# Altium schematic symbol library SCH_ConnectorHDR.SchLib: 14 symbols
Pins are listed as number, name and electrical type; pins without a type are passive.

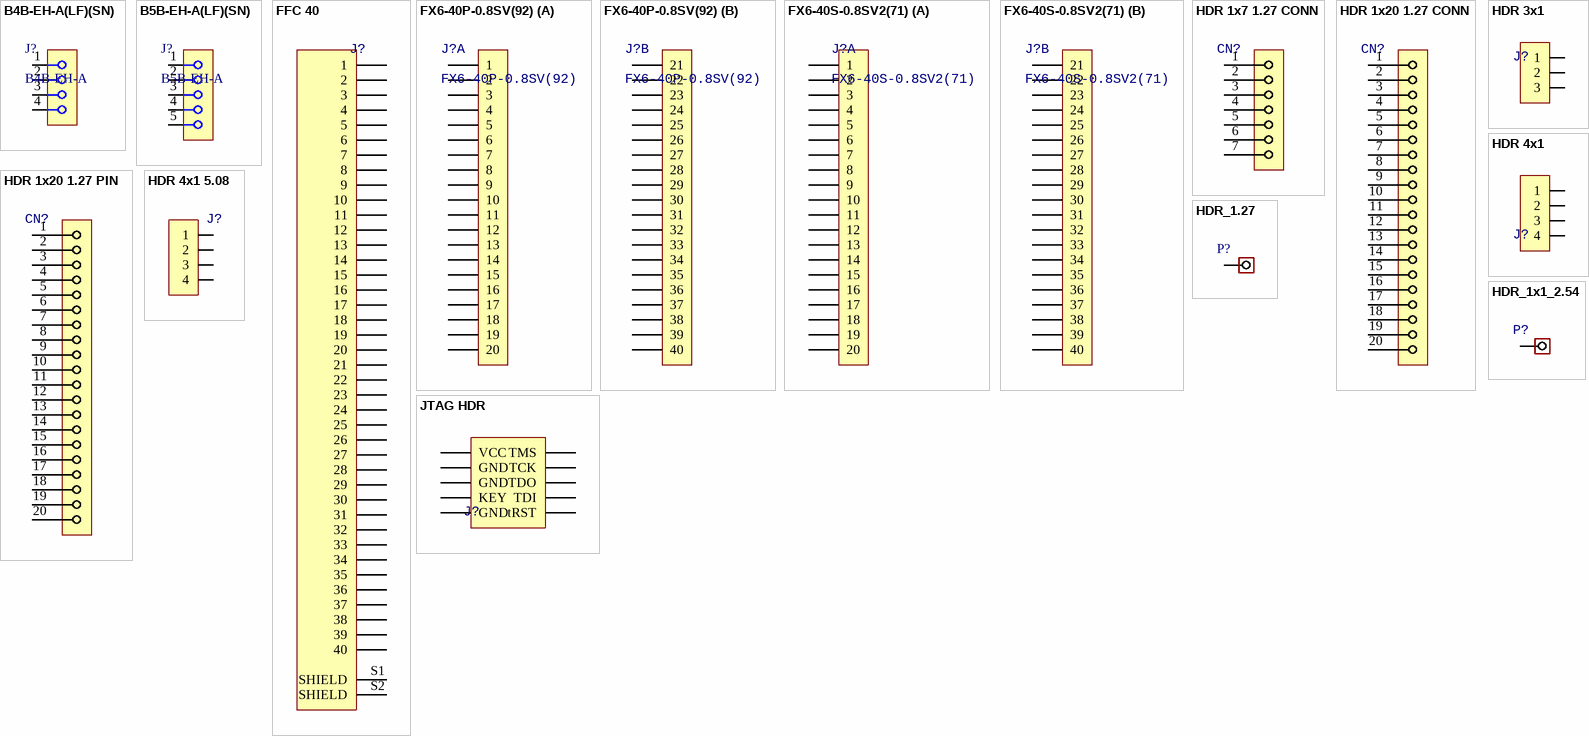
[diagram p0: symbols B4B-EH-A(LF)(SN) to JTAG HDR]

## B4B-EH-A(LF)(SN)
designator J?, comment B4B-EH-A
4 Positions Header, Shrouded Connector 0.098" (2.50mm) Through Hole Tin; Manufacturer: JST; Manufacturer Part Number: B4B-EH-A(LF)(SN); Number of Positions: 4; Connector Type: Male Pin,Plug; Gender: Male; Current Rating: 3A; Voltage Rating: 250V; Contact Resistance: 20mR; Pitch: 2.5mm; Supplier 1: Digi-Key; Stock 1: 67844; Pricing 1: 1=0.17, 10=0.164, 100=0.1133, 500=0.09588, 1000=0.07845, 5000=0.06973, 10000=0.0632 (EUR); Mount: Through Hole; Contact Plating: Copper,Tin; Colour: Natural; Contact Material: Brass,Copper Alloy; Housing Colour: White; Housing Material: Nylon; Min Operating Temperature: -25°C; Max Operating Temperature: 85°C; Number of Rows: 1; Packaging: Bulk; Fastening Type: Detent; Number of Contacts: 4; Termination: Press-Fit; Orientation: Straight; Max Current Rating: 3A; Max Voltage Rating (AC): 250V; Length: 12.5mm; Depth: 3.8mm; Contact Mating Length: 0.13inch; Lead Free: Lead Free; REACH SVHC: Unknown; ComponentLink1URL: http://www1.futureelectronics.com/doc/JST/B4B-EH-A(LF)(SN).pdf; ComponentLink1Description: http://www1.futureelectronics.com/doc/JST/B4B-EH-A(LF)(SN).pdf; ComponentLink2URL: http://uk.rs-online.com/webdocs/1363/0900766b8136354a.pdf; ComponentLink2Description: http://uk.rs-online.com/webdocs/1363/0900766b8136354a.pdf; ComponentLink3URL: http://www.jst-mfg.com/product/pdf/eng/eEH.pdf; ComponentLink3Description: http://www.jst-mfg.com/product/pdf/eng/eEH.pdf; ComponentLink4URL: https://www.verical.com/server-webapp/html/getDatasheet?partID=640922; ComponentLink4Description: https://www.verical.com/server-webapp/html/getDatasheet?partID=640922; ComponentLink5URL: http://www.produktinfo.conrad.com/datenblaetter/1200000-1299999/001217321-da-01-en-STIFTLEISTE_GERADE_4_POL__RM_25MM.pdf; ComponentLink5Description: http://www.produktinfo.conrad.com/datenblaetter/1200000-1299999/001217321-da-01-en-STIFTLEISTE_GERADE_4_POL__RM_25MM.pdf; Supplier Part Number 1: 455-1613-ND
footprint JST_EH_1x4_2.54 (JST EH Connector 4 Pins Top Entry Type)
pins: 1, 2, 3, 4

## B5B-EH-A(LF)(SN)
designator J?, comment B5B-EH-A
5 Positions Header, Shrouded Connector 0.098" (2.50mm) Through Hole Tin; Manufacturer: JST; Manufacturer Part Number: B5B-EH-A(LF)(SN); Number of Positions: 5; Connector Type: Male Pin,Plug; Gender: Male; Current Rating: 3A; Voltage Rating: 250V; Pitch: 2.5mm; Supplier 1: Digi-Key; Stock 1: 10273; Pricing 1: 1=0.21, 10=0.195, 100=0.1354, 500=0.11452, 1000=0.0937, 5000=0.08329, 10000=0.07548 (EUR); Mount: Through Hole; Colour: Natural; Housing Colour: White; Contact Plating: Tin; Contact Material: Brass,Copper Alloy; Number of Rows: 1; Packaging: Bulk; Fastening Type: Detent; Number of Contacts: 5; Termination: Press-Fit; Orientation: Straight; Contact Mating Length: 0.13inch; Lead Free: Lead Free; REACH SVHC: Unknown; ComponentLink1URL: http://uk.rs-online.com/webdocs/05aa/0900766b805aaa32.pdf; ComponentLink1Description: http://uk.rs-online.com/webdocs/05aa/0900766b805aaa32.pdf; ComponentLink2URL: http://www.jst-mfg.com/product/pdf/eng/eEH.pdf; ComponentLink2Description: http://www.jst-mfg.com/product/pdf/eng/eEH.pdf; ComponentLink3URL: http://www.farnell.com/datasheets/621886.pdf; ComponentLink3Description: http://www.farnell.com/datasheets/621886.pdf; ComponentLink4URL: http://www.produktinfo.conrad.com/datenblaetter/1200000-1299999/001217322-da-01-en-STIFTLEISTE_GERADE_5_POL__RM_25MM.pdf; ComponentLink4Description: http://www.produktinfo.conrad.com/datenblaetter/1200000-1299999/001217322-da-01-en-STIFTLEISTE_GERADE_5_POL__RM_25MM.pdf; Supplier Part Number 1: 455-1614-ND
footprint JST_EH_1x5_2.54 (JST EH Connector 5 Pins Top Entry Type)
pins: 1, 2, 3, 4, 5

## FFC 40
designator J?, comment 4-1734592-0  (value not drawn)
TE CONNECTIVITY / AMP   4-1734592-0   FFC / FPC Board Connector, FPC Series, Surface Mount, Receptacle, 40 Contacts, Bottom, 0.5 mm; Contact Resistance: 35mR; Max Voltage Rating (AC): 250V; Current Rating: 500mA; Gender: Female; Number of Positions: 40; Shielding: Unshielded; Connector Type: Connector,Receptacle,Socket; Wire/Cable Type: Flat Flex; Connector System: Flex-to-Board; Plating Thickness: 0.025um; Mating Alignment: Yes (With); PCB Mount Alignment: No (Without); PCB Mount Retention: With; PCB Mounting Orientation: Right Angle; Pitch: 0.5mm; Supplier 1: Digi-Key; Supplier Part Number 1: A100226DKR-ND; Manufacturer 1: TE Connectivity; Manufacturer Part Number 1: 4-1734592-0; Description 1: TE CONNECTIVITY / AMP   4-1734592-0   FFC / FPC Board Connector, FPC Series, Surface Mount, Receptacle, 40 Contacts, Bottom, 0.5 mm; Stock 1: 31060; Pricing 1: 1=1.16, 10=1.049, 25=0.9844, 50=0.9416, 100=0.8988, 250=0.8132, 500=0.74898, 1000=0.64199 (USD); Mount: Surface Mount; Contact Plating: Gold; Contact Material: Bronze; Housing Colour: Natural; Housing Material: Polymer; Min Operating Temperature: -40°C; Max Operating Temperature: 85°C; Number of Rows: 1; Packaging: Tape and Reel; Package Quantity: 2000; Voltage Rating: 250V; Termination: SMD/SMT; Contact Location: Bottom; Number of Contacts: 40; Orientation: Right Angle; Sealable: No (Without); Shrouded: Yes (With); Contact Current Rating: 500mA; Length: 25.43mm; Height: 2.05mm; Width: 5.1mm; Depth: 5.1mm; Radiation Hardening: No; REACH SVHC: No SVHC; Lead Free: Lead Free; ELV: Compliant; Flammability Rating: UL94 V-0
footprint TE_4-1734592-0_4-1734592-0(Primary)
pins: 1, 2, 3, 4, 5, 6, 7, 8, 9, 10, 11, 12, 13, 14, 15, 16, 17, 18, 19, 20, 21, 22, 23, 24, 25, 26, 27, 28, 29, 30, 31, 32, 33, 34, 35, 36, 37, 38, 39, 40, S1 SHIELD, S2 SHIELD

## FX6-40P-0.8SV(92)
designator J?
Board to Board & Mezzanine Connectors 40P M HEADER SMT BOARD VERTICAL TYPE; Manufacturer: Hirose; Supplier 1: Digi-Key; Manufacturer Part Number: FX6-40P-0.8SV(92); Stock 1: 0; Pricing 1: 1000=1.711 (USD); Number of Pins: 40; Packaging: Tape and Reel; Package Quantity: 1000; Termination: SMD/SMT; Lead Free: Lead Free; ComponentLink1URL: https://www.hirose.com/product/en/download_file/key_name/FX6/category/Catalog/doc_file_id/49674/?file_category_id=4&item_id=211&is_series=1; ComponentLink1Description: https://www.hirose.com/product/en/download_file/key_name/FX6/category/Catalog/doc_file_id/49674/?file_category_id=4&item_id=211&is_series=1; ComponentLink2URL: http://www.hirose.co.jp/cataloge_hp/e57600013.pdf; ComponentLink2Description: http://www.hirose.co.jp/cataloge_hp/e57600013.pdf; Supplier Part Number 1: FX6-40P-0.8SV(92)-ND
footprint FX6-40P-0.8SV(92) (Male 40 pins Header)
part A pins: 1, 2, 3, 4, 5, 6, 7, 8, 9, 10, 11, 12, 13, 14, 15, 16, 17, 18, 19, 20
part B pins: 21, 22, 23, 24, 25, 26, 27, 28, 29, 30, 31, 32, 33, 34, 35, 36, 37, 38, 39, 40

## FX6-40S-0.8SV2(71)
designator J?
CONN RECEPT 40POS .8MM W/BOSS; Manufacturer: Hirose; Number of Contacts: 40; Current Rating: 500mA; Connector Type: Receptacle; Voltage Rating: 100V; Pitch: 0.8mm; Mated Stacking Heights: 9mm; Row Spacing: 2.7mm; Supplier 1: Digi-Key; Manufacturer Part Number: FX6-40S-0.8SV2(71); Stock 1: 530; Pricing 1: 1=3.75, 10=3.6, 25=3.3, 50=3.15, 100=3, 250=2.625 (USD); Mount: Surface Mount; Contact Plating: Gold; Contact Material: Bronze; Housing Material: Polyphenylene; Housing Colour: Brown; Number of Rows: 2; Package Quantity: 22; Packaging: Rail/Tube; Number of Positions: 40; Termination: SMD/SMT; Gender: Receptacle; Orientation: Straight; Radiation Hardening: No; Lead Free: Lead Free; Flammability Rating: UL94 V-0; REACH SVHC: No SVHC; ComponentLink1URL: https://datasheet.ciiva.com/11754/0900766b80f5fb2e-11754480.pdf; ComponentLink1Description: https://datasheet.ciiva.com/11754/0900766b80f5fb2e-11754480.pdf; ComponentLink2URL: https://datasheet.ciiva.com/9481/e57600013-9481061.pdf; ComponentLink2Description: https://datasheet.ciiva.com/9481/e57600013-9481061.pdf; ComponentLink3URL: https://datasheet.ciiva.com/8039/1910196-8039051.pdf; ComponentLink3Description: https://datasheet.ciiva.com/8039/1910196-8039051.pdf; ComponentLink4URL: https://datasheet.ciiva.com/16352/e57600013-16352619.pdf; ComponentLink4Description: https://datasheet.ciiva.com/16352/e57600013-16352619.pdf; ComponentLink5URL: https://datasheet.ciiva.com/394/e57600013-394460.pdf; ComponentLink5Description: https://datasheet.ciiva.com/394/e57600013-394460.pdf
footprint FX6-40S-0.8SV2(71) (Female 40 Pins Header)
part A pins: 1, 2, 3, 4, 5, 6, 7, 8, 9, 10, 11, 12, 13, 14, 15, 16, 17, 18, 19, 20
part B pins: 21, 22, 23, 24, 25, 26, 27, 28, 29, 30, 31, 32, 33, 34, 35, 36, 37, 38, 39, 40

## HDR 1x7 1.27 CONN
designator CN?  (value not drawn)
footprint HDR1x20_1.27_PIN
footprint HDR1x7_1.27_CONN
pins: 1, 2, 3, 4, 5, 6, 7

## HDR 1x20 1.27 CONN
designator CN?  (value not drawn)
footprint HDR1x20_1.27_CONN
pins: 1, 2, 3, 4, 5, 6, 7, 8, 9, 10, 11, 12, 13, 14, 15, 16, 17, 18, 19, 20

## HDR 1x20 1.27 PIN
designator CN?  (value not drawn)
footprint HDR1x20_1.27_PIN
pins: 1, 2, 3, 4, 5, 6, 7, 8, 9, 10, 11, 12, 13, 14, 15, 16, 17, 18, 19, 20

## HDR 3x1
designator J?  (value not drawn)
Manufacturer: JAE Electronics; Manufacturer Part Number: IL-G-4P-S3T2-SA; 梱包形態: バルク; 部品状況: 有効; コネクタタイプ: ヘッダ; コンタクトタイプ: 雄ピン; ピッチ - 嵌合: 0.098インチ（2.50mm）; ポジション数: 4; 列数: 1; 負荷ポジション数: 全; 形態: 基板対ケーブル/ワイヤ; シュラウディング: シュラウド型- 1ウォール; 実装タイプ: スルーホール; 終端: はんだ; 締め具タイプ: 摩擦式ロック; コンタクト長 - 嵌合: 0.157インチ（4.00mm）; コンタクト長 - ポスト: 0.138インチ（3.50mm）; 全体のコンタクト長: 0.378インチ（9.60mm）; 絶縁高さ: 0.279インチ（7.10mm）; コンタクトシェープ: 正方形; コンタクト仕上げ - 嵌合: 錫; コンタクト材料: 真鍮; 絶縁材料: ポリアミド（PA66）、ナイロン66; 動作温度: -40°C～85°C; 材質難燃性グレード: UL94 V-0; 絶縁色: 茶; 定格電流: 3A/コンタクト; 嵌合スタック高さ: 10mm; RoHS: RoHS Compliant; Category: コネクタ、相互接続; ロースペーシング - 嵌合: -; コンタクト仕上げ厚さ - 嵌合: -; コンタクト仕上げ - ポスト: 錫; 特長: -; 防塵防水: -; 定格電圧: -; コンタクト仕上げ厚さ - ポスト: -; アプリケーション: -; ComponentLink1URL: http://www.jae.com/z-en/pdf_download_exec.cfm?param=2008-71-IL-G.pdf; ComponentLink1Description: http://www.jae.com/z-en/pdf_download_exec.cfm?param=2008-71-IL-G.pdf
footprint HDR1X3_2.54_180F
pins: 1, 2, 3

## HDR 4x1
designator J?  (value not drawn)
Manufacturer: JAE Electronics; Manufacturer Part Number: IL-G-4P-S3T2-SA; 梱包形態: バルク; 部品状況: 有効; コネクタタイプ: ヘッダ; コンタクトタイプ: 雄ピン; ピッチ - 嵌合: 0.098インチ（2.50mm）; ポジション数: 4; 列数: 1; 負荷ポジション数: 全; 形態: 基板対ケーブル/ワイヤ; シュラウディング: シュラウド型- 1ウォール; 実装タイプ: スルーホール; 終端: はんだ; 締め具タイプ: 摩擦式ロック; コンタクト長 - 嵌合: 0.157インチ（4.00mm）; コンタクト長 - ポスト: 0.138インチ（3.50mm）; 全体のコンタクト長: 0.378インチ（9.60mm）; 絶縁高さ: 0.279インチ（7.10mm）; コンタクトシェープ: 正方形; コンタクト仕上げ - 嵌合: 錫; コンタクト材料: 真鍮; 絶縁材料: ポリアミド（PA66）、ナイロン66; 動作温度: -40°C～85°C; 材質難燃性グレード: UL94 V-0; 絶縁色: 茶; 定格電流: 3A/コンタクト; 嵌合スタック高さ: 10mm; Supplier 1: Digi-Key; RoHS: RoHS Compliant; Category: コネクタ、相互接続; Stock 1: 5644; Pricing 1: 1=54, 10=50.6, 100=38.76, 500=33.702, 1000=27.804, 5000=24.434, 10000=22.7489 (JPY); ロースペーシング - 嵌合: -; コンタクト仕上げ厚さ - 嵌合: -; コンタクト仕上げ - ポスト: 錫; 特長: -; 防塵防水: -; 定格電圧: -; コンタクト仕上げ厚さ - ポスト: -; アプリケーション: -; ComponentLink1URL: http://www.jae.com/z-en/pdf_download_exec.cfm?param=2008-71-IL-G.pdf; ComponentLink1Description: http://www.jae.com/z-en/pdf_download_exec.cfm?param=2008-71-IL-G.pdf; Supplier Part Number 1: 670-2544-ND
footprint HDR1X4_2.54_180
pins: 1, 2, 3, 4

## HDR 4x1 5.08
designator J?  (value not drawn)
footprint HDR1X4_5.08_90
pins: 1, 2, 3, 4

## HDR_1.27
designator P?  (value not drawn)
footprint HDR1X1_1.27 (500mil pad)
pins: 1

## HDR_1x1_2.54
designator P?  (value not drawn)
footprint HDR1X1_2.54 (100mil pad)
pins: 1

## JTAG HDR
designator J?  (value not drawn)
CONN HEADER 10POS DUAL .05" SMD; Manufacturer: Samtec Inc.; Manufacturer Part Number: FTSH-105-01-F-DV-K; 梱包形態: チューブ; 部品状況: 有効; コネクタタイプ: ヘッダ、切断可能; コンタクトタイプ: 雄ピン; ピッチ - 嵌合: 0.050インチ（1.27mm）; ポジション数: 10; 列数: 2; 負荷ポジション数: 全; 形態: 基板対基板またはケーブル; シュラウディング: 非シュラウド型; 実装タイプ: 面実装; 終端: はんだ; 締め具タイプ: プッシュプル; コンタクト長 - 嵌合: 0.120インチ（3.05mm）; 絶縁高さ: 0.099インチ（2.51mm）; コンタクトシェープ: 正方形; コンタクト仕上げ - 嵌合: 金; コンタクト仕上げ厚さ - 嵌合: 3µin（0.08µm）; コンタクト仕上げ - ポスト: 錫; コンタクト材料: 燐青銅; 絶縁材料: 液晶ポリマー（LCP）; 特長: キーイングシュラウド; 動作温度: -55°C～125°C; 材質難燃性グレード: UL94 V-0; 絶縁色: 黒; 定格電流: 3.3A/コンタクト; Supplier 1: Digi-Key; RoHS: RoHS Compliant; Category: コネクタ、相互接続; Stock 1: 13205; Pricing 1: 1=349, 10=335.1, 100=279.25, 500=237.358, 1000=202.453, 5000=181.5094 (JPY); ロースペーシング - 嵌合: 0.050インチ（1.27mm）; コンタクト長 - ポスト: -; 全体のコンタクト長: -; 防塵防水: -; 定格電圧: -; 嵌合スタック高さ: -; コンタクト仕上げ厚さ - ポスト: -; アプリケーション: -; ComponentLink1URL: http://suddendocs.samtec.com/prints/ftsh-1xx-xx-xxx-dv-xxx-xxx-mkt.pdf; ComponentLink1Description: http://suddendocs.samtec.com/prints/ftsh-1xx-xx-xxx-dv-xxx-xxx-mkt.pdf; Supplier Part Number 1: SAM8796-ND
footprint FTSH-105-01-XXX-DV-K
pins: 1 VCC, 2 TMS, 3 GND, 4 TCK, 5 GND, 6 TDO, 7 KEY, 8 TDI, 9 GND, 10 tRST